# Altium schematic symbol library CY7C65211-24LTXI.SchLib: 1 symbol
Pins are listed as number, name and electrical type; pins without a type are passive.

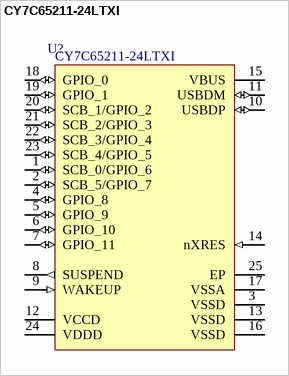
[diagram p0: symbol CY7C65211-24LTXI]

## CY7C65211-24LTXI
designator U?  PartNumber: CY7C65211-24LTXI
USB-Serial Single-Channel (UART/I2C/SPI) Bridge with CapSense(R) and BCD, 0.5 KB, 12 I/Os, 1.71 to 5.5 V, -40 to 85 degC, 24-Pin QFN (LTX24), Tray; Manufacturer: Cypress; DatasheetVersion: Rev. *E; PackageVersion: Rev. *E; PackageReference: LTX24; PackageDescription: 24-Pin Quad Flat No-Lead Package, Body 4 x 4 mm, Pitch 0.5 mm; ComponentLink1Description: Manufacturer URL; ComponentLink1URL: http://www.cypress.com/; ComponentLink2Description: Datasheet; ComponentLink2URL: http://www.cypress.com/?docID=45551
footprint QFN50P400X400X60-25N
footprint QFN50P400X400X60-25N
footprint QFN50P400X400X60-25N
pins: 1 SCB_0/GPIO_6 (io) "SCB/GPIO.", 2 SCB_5/GPIO_7 (io) "SCB/GPIO.", 3 VSSD (power) "Digital Ground", 4 GPIO_8 (io) "GPIO.", 5 GPIO_9 (io) "GPIO.", 6 GPIO_10 (io) "GPIO.", 7 GPIO_11 (io) "GPIO.", 8 SUSPEND (out) "Indicates device in suspend mode. Can be configured as active low/high using the configuration utility", 9 WAKEUP (in) "Wakeup device from suspend mode. Can be configured as active low/high using the configuration utility", 10 USBDP (io) "USB Data Signal Plus, integrates termination resistor and a 1.5-kohm pull-up resistor", 11 USBDM (io) "USB Data Signal Minus, integrates termination resistor", 12 VCCD (power) "This pin should be decoupled to ground using a 1-uF capacitor or by connecting a 1.8-V supply", 13 VSSD (power) "Digital Ground", 14 nXRES (in) "Chip reset, active low. Can be left unconnected or have a pull-up resistor connected if not used", 15 VBUS (power) "VBUS Supply, 3.15 V to 5.25 V", 16 VSSD (power) "Digital Ground", 17 VSSA (power) "Analog Ground", 18 GPIO_0 (io) "GPIO.", 19 GPIO_1 (io) "GPIO.", 20 SCB_1/GPIO_2 (io) "SCB/GPIO.", 21 SCB_2/GPIO_3 (io) "SCB/GPIO.", 22 SCB_3/GPIO_4 (io) "SCB/GPIO.", 23 SCB_4/GPIO_5 (io) "SCB/GPIO.", 24 VDDD (power) "Supply to the device core and Interface, 1.71 to 5.5 V", 25 EP